# Altium footprint library DS3231.PCBLIB: 1 footprints
Each footprint in its own frame and in the unit in brackets; x right, y up, seen from the top. Pads: shape width x height; smd on the part's side, far side on the other; paste and mask are expansions set on the pad; w line width, h text height; cw(c..) or ccw(c..) is an arc to the next point about the centre after c.
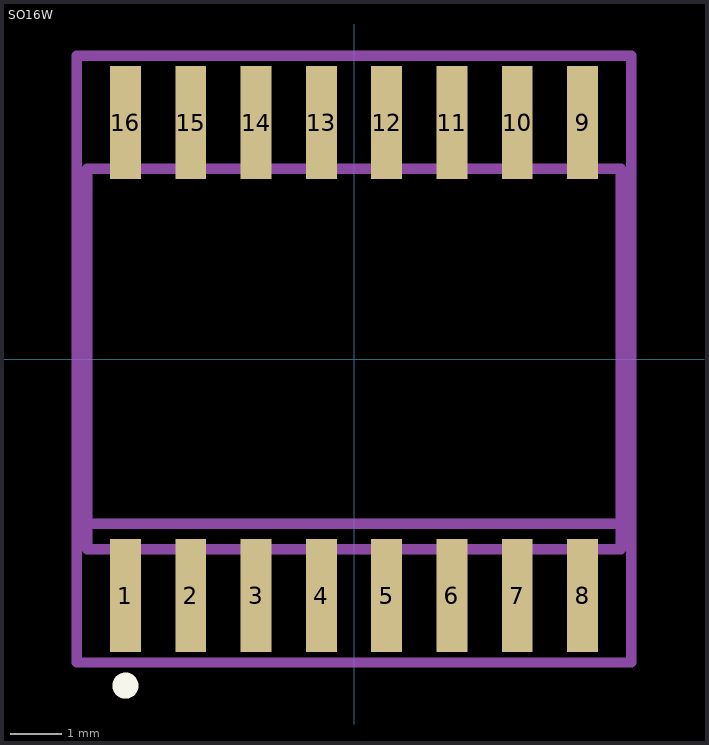
[diagram p0: the footprint, top view; thin cyan lines are the x and y axes]

## SO16W [mil]
pads (16):
  rect 23.62x86.61 smd: 1(-175,-181.1) 2(-125,-181.1) 3(-75,-181.1) 4(-25,-181.1) 5(25,-181.1) 6(75,-181.1) 7(125,-181.1) 8(175,-181.1) 9(175,181.1) 10(125,181.1) 11(75,181.1) 12(25,181.1) 13(-25,181.1) 14(-75,181.1) 15(-125,181.1) 16(-175,181.1)
Top Overlay:
  circle w10: c-175,-250 r5
Assembly Top:
  region: -184.65,149.61 -184.65,209.45 -165.35,209.45 -165.35,149.61
  region: -134.65,149.61 -134.65,209.45 -115.35,209.45 -115.35,149.61
  region: -84.65,149.61 -84.65,209.45 -65.35,209.45 -65.35,149.61
  region: -34.65,149.61 -34.65,209.45 -15.35,209.45 -15.35,149.61
  region: 15.35,149.61 15.35,209.45 34.65,209.45 34.65,149.61
  region: 65.35,149.61 65.35,209.45 84.65,209.45 84.65,149.61
  region: 115.35,149.61 115.35,209.45 134.65,209.45 134.65,149.61
  region: 165.35,149.61 165.35,209.45 184.65,209.45 184.65,149.61
  region: 165.35,-209.45 165.35,-149.61 184.65,-149.61 184.65,-209.45
  region: 115.35,-209.45 115.35,-149.61 134.65,-149.61 134.65,-209.45
  region: 65.35,-209.45 65.35,-149.61 84.65,-149.61 84.65,-209.45
  region: 15.35,-209.45 15.35,-149.61 34.65,-149.61 34.65,-209.45
  region: -34.65,-209.45 -34.65,-149.61 -15.35,-149.61 -15.35,-209.45
  region: -84.65,-209.45 -84.65,-149.61 -65.35,-149.61 -65.35,-209.45
  region: -134.65,-209.45 -134.65,-149.61 -115.35,-149.61 -115.35,-209.45
  region: -184.65,-209.45 -184.65,-149.61 -165.35,-149.61 -165.35,-209.45
  lines w8: -204.33,-125.98 204.33,-125.98 ; -204.33,-125.98 -204.33,145.67 204.33,145.67 204.33,-125.98 ; -204.33,-125.98 -204.33,-145.67 204.33,-145.67 204.33,-125.98
Mechanical 30:
  lines w7.87: -212.4,-232.28 -212.4,232.28 212.4,232.28 212.4,-232.28 -212.4,-232.28